# Altium schematic symbol library L6207.Schlib: 1 symbol
Pins are listed as number, name and electrical type; pins without a type are passive.

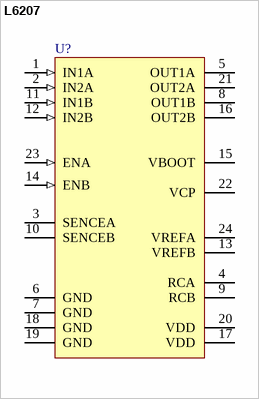
[diagram p0: symbol L6207]

## L6207
designator U?
Dual Full Bridge Driver; Package Information: Latest Revision: 1997; Published: 8-Jun-2000; Revision: 17-Jul-2002: Re-released for DXP Platform.; Datasheet: Latest Revision: 1997; Package Reference: JW40; Publisher: Altium Limited
footprint SO-24
pins: 1 IN1A (in), 2 IN2A (in), 3 SENCEA, 4 RCA, 5 OUT1A, 6 GND (power), 7 GND (power), 8 OUT1B, 9 RCB, 10 SENCEB, 11 IN1B (in), 12 IN2B (in), 13 VREFB, 14 ENB (in), 15 VBOOT, 16 OUT2B, 17 VDD (power), 18 GND (power), 19 GND (power), 20 VDD (power), 21 OUT2A, 22 VCP, 23 ENA (in), 24 VREFA